# EAGLE library part 805-309/000-006 (library con-wago_805)
Stand: 01.01.2014. Die jeweils aktuellen Daten zu diesem Artikel finden Sie in unserem Produktkatalog, den Sie unter www.wago.com einsehen können. As of: 01/01/2014. Please find the newest data for this article in our product catalogue, which can be viewed under www.wago.com.
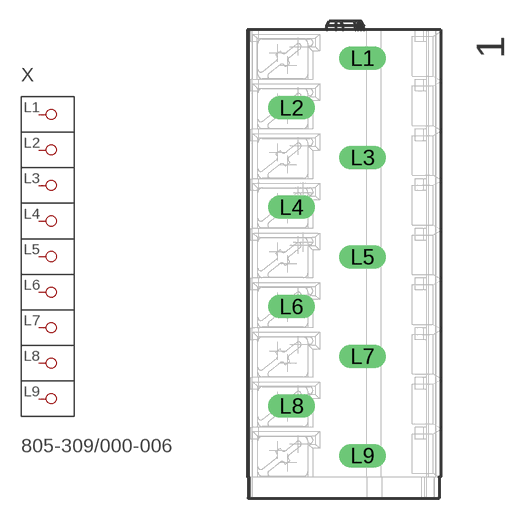
[diagram p60: symbol with the pads of P-805-309; footprint P-805-309]

Designator prefix X

## 805-309/000-006  [P-805-309]
L1  P1
L2  P2
L3  P3
L4  P4
L5  P5
L6  P6
L7  P7
L8  P8
L9  P9

## Footprint P-805-309 (pad centres in mm)
drill 1.1 long: L1 1.3,14.2; L2 -3.7,10.7; L3 1.3,7.2; L4 -3.7,3.7; L5 1.3,0.2; L6 -3.7,-3.3; L7 1.3,-6.8; L8 -3.7,-10.3; L9 1.3,-13.8